# Altium schematic symbol library Schlib4.SchLib: 1 symbol
Pins are listed as number, name and electrical type; pins without a type are passive.

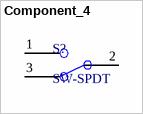
[diagram p0: symbol Component_4]

## Component_4
designator S?, comment SW-SPDT
footprint SW-SPDT
pins: 1, 2, 3